# EAGLE library part TPS4030* (library ORBiT-IC-TI)
TI TPS4030x family 3V to 20V Input, 25A Synchronous Buck Controllers with FSS The TPS4030x is a family of cost-optimized synchronous buck controllers that operate from 3-V to 20-V input. The controller implements a voltage-mode control architecture with input-voltage feed-forward compensation that responds instantly to a change in input voltage. The switching frequency is fixed at 300 kHz, 600 kHz, or 1.2 MHz. The frequency spread-spectrum (FSS) feature adds to the switching frequency, significantly reducing the peak EMI noise and making it much easier to comply with EMI standards. The TPS4030x offers design with a variety of user-programmable functions, including soft start, overcurrent protection (OCP) levels, and loop compensation. OCP level may be programmed by a single external resistor connected from the LDRV pin to circuit ground. During initial power on, the TPS4030x enters a calibration cycle, measures the voltage at the LDRV pin, and sets an internal OCP voltage level. During operation, the programmed OCP voltage level is compared to the voltage drop across the low-side FET when it is on to determine whether there is an overcurrent condition. The TPS4030x then enters a shutdown and restart cycle until the fault is removed. Technical data: TPS40305 <http://www.ti.com/product/tps40305/description>
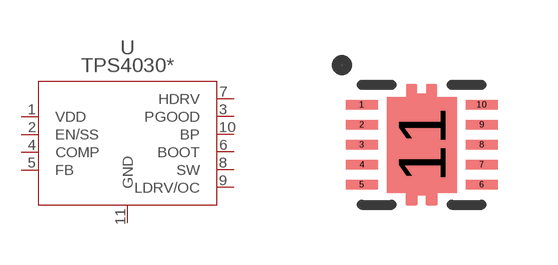
[diagram p0: symbol with the pads of VSON-10; footprint VSON-10]

Designator prefix U

## TPS4030-3 (MF: Texas Instruments; MPN: TPS40303DRCR; PN_DIGIKEY: 296-37444-1-ND; PN_MOUSER: 595-TPS40303DRCR), TPS4030-4 (MF: Texas Instruments; MPN: TPS40304DRCR; PN_DIGIKEY: 296-39399-1-ND; PN_MOUSER: 595-TPS40303DRCR), TPS4030-5 (MF: Texas Instruments; MPN: TPS40305DRCR; PN_DIGIKEY: 296-37445-1-ND; PN_MOUSER: 595-TPS40305DRCR)  [VSON-10]
1  VDD  pas
2  EN/SS  pas
3  PGOOD  pas
4  COMP  pas
5  FB  pas
6  BOOT  pas
7  HDRV  pas
8  SW  pas
9  LDRV/OC  pas
10  BP  pas
11  GND  pas

## Footprint VSON-10 (pad centres in mm)
Plastic Small Outline Package - No-lead, 10-pin TI DRC0010J
smd 0.8 x 0.23: 1 -1.5,1; 2 -1.5,0.5; 3 -1.5,0; 4 -1.5,-0.5; 5 -1.5,-1; 6 1.5,-1; 7 1.5,-0.5; 8 1.5,0; 9 1.5,0.5; 10 1.5,1
smd 1.75 x 2.4: 11 0,0